# EAGLE library part AT24C04C-SSHM-T (library Memory)
IC EEPROM 4KBIT I2C 1MHZ 8SOIC Manufacturer's datasheet <https://ww1.microchip.com/downloads/en/DeviceDoc/AT24C04C-AT24C08C-I2C-Compatible-%20Two-Wire-Serial-EEPROM-4-Kbit-8-Kbit-20006127A.pdf>
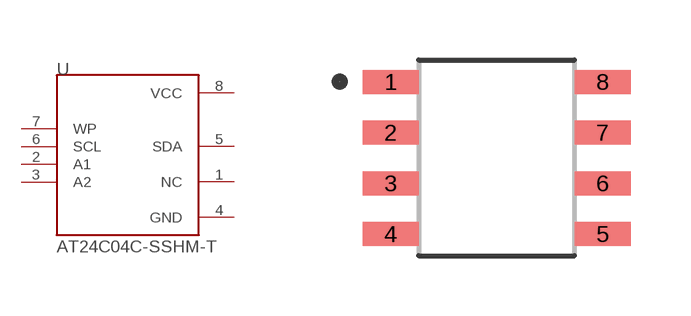
[diagram p2: symbol with the pads of SO8; footprint SO8]

Designator prefix U

## AT24C04C-SSHM-T (CREATED_BY: PCBLayout.com; DIGIKEY_PARTNO: AT24C04C-SSHM-TTR-ND; MANUFACTURER: Microchip Technology; MPN: AT24C04C-SSHM-T; PACKAGE: SOIC-8)  [SO8]
1  NC  nc
2  A1  in
3  A2  in
4  GND  pwr
5  SDA
6  SCL  in
7  WP  in
8  VCC  pwr

## Footprint SO8 (pad centres in mm)
smd 1.4 x 0.6: 1 -2.65,1.905; 2 -2.65,0.635; 3 -2.65,-0.635; 4 -2.65,-1.905; 5 2.65,-1.905; 6 2.65,-0.635; 7 2.65,0.635; 8 2.65,1.905